# Altium schematic symbol library STB_Schlib.SchLib: 6 symbols
Pins are listed as number, name and electrical type; pins without a type are passive.

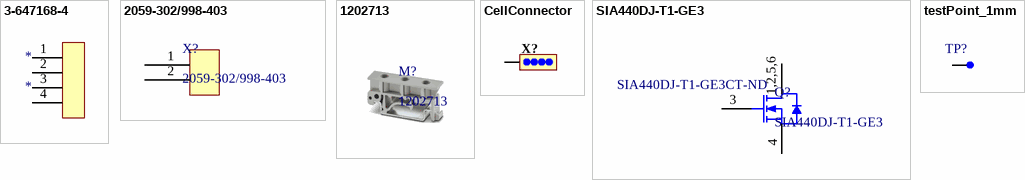
[diagram p0: symbols 3-647168-4 to testPoint_1mm]

## 3-647168-4
designator *
Board Connector, 4 Contact(s), 1 Row(s), Male, Straight, 0.1 inch Pitch, Locking, Black Insulator, Plug; Manufacturer: TE Connectivity; Manufacturer Part Number: 3-647166-4; Manufacturer Series: 647166; Option: General Purpose; Filter Feature: No; Number of Rows Loaded: 1; Number of Contacts: 4; Contact Pattern: RECTANGULAR; Contact Resistance: 10mR; Contact Style: SQ PIN-SKT; Dielectric Withstanding Voltage (AC): 750V; Durability: 25Cycles; Insertion Force-Max: 8.896N; Insulation Resistance: 5GR; Polarization Key: POLARIZED HOUSING; Withdrawl Force-Min: 3.614N; Number Of PCB Rows: 2; PCB Contact Pattern: STAGGERED; Body Breadth: 0.25inch; Body Depth: 0.347inch; Body Length: 0.4inch; Mounting Option 2: FRICTION LOCK; PCB Contact Row Spacing: 2.9972mm; Reference Standard: UL; Reliability: COMMERCIAL; Supplier 1: Digi-Key; Supplier Part Number 1: A110803-ND; RoHS: Yes; Category: Connectors; Stock 1: 3619; Pricing 1: 1=2.42000, 10=2.10700, 100=1.88280, 500=1.56900, 1000=1.34485, 5000=1.19243 (USD); Mount: Board; Contact Finish - Mating: NOT SPECIFIED; Insulation Color: Black; Insulation Material: Nylon; Min Operating Temperature: -55°C; Max Operating Temperature: 105°C; Connector Type: BOARD CONNECTOR; Contact Gender: Male; Mixed Contacts: No; JESD-609 Code: e3; Termination: SMD/SMT; Body/Shell Style: PLUG; Mounting Style: STRAIGHT; Number Of Connectors: 1; Mating Contact Pitch: 0.1inch; Mounting Option 1: LOCKING; Terminal Pitch: 2.54mm; RoHS Compliant: Yes; DIN Conformance: No; IEC Conformance: No; MIL Conformance: No; Reach SVHC Compliant: Yes; ComponentLink1URL: https://datasheet.ciiva.com:443/pdfs/VipMasterIC/IC/TYEL/TYEL-S-A0008869674/TYEL-S-A0008865685-1.pdf?src-supplier=IHS+Markit; ComponentLink1Description: https://datasheet.ciiva.com:443/pdfs/VipMasterIC/IC/TYEL/TYEL-S-A0008869674/TYEL-S-A0008865685-1.pdf?src-supplier=IHS+Markit; ComponentLink2URL: https://datasheet.ciiva.com/16216/eng-ds-82056-mta-0608-16216388.pdf?src-supplier=Future+Electronics; ComponentLink2Description: https://datasheet.ciiva.com/16216/eng-ds-82056-mta-0608-16216388.pdf?src-supplier=Future+Electronics; ComponentLink3URL: https://datasheet.ciiva.com/9525/eng-ds-82056-mta-0608-9525559.pdf?src-supplier=Avnet; ComponentLink3Description: https://datasheet.ciiva.com/9525/eng-ds-82056-mta-0608-9525559.pdf?src-supplier=Avnet
footprint 3-647168-4 (04P MTA100 HDR ASSY SM 30AU LF)
pins: 1, 2, 3, 4

## 2059-302/998-403
designator X?
Barrier Strip Terminal Block, 3A, 0.34mm2, 1 Row(s), 1 Deck(s); Manufacturer: WAGO; Fastening Method: PUSH-IN; Number of Decks: 1; Number of Ways: 2; Voltage Rating: 250V; Wire/Cable Gauge: 22AWG; Safety Approval: UL; Supplier 1: Digi-Key; Manufacturer Part Number: 2059-302/998-403; RoHS: Yes; Category: Connectors; Stock 1: 17368; Pricing 1: 1=1.25000, 10=0.87800, 25=0.81880, 50=0.74320, 100=0.73990, 250=0.62484, 500=0.59194 (USD); Mount: Board; Number of Rows: 1; Current Rating: 3A; Terminal and Terminal Block Type: BARRIER STRIP TERMINAL BLOCK; Wire Cross Section: 0.34mm2; REACH SVHC: Yes; RoHS Compliant: Yes; ComponentLink1URL: https://datasheet.ciiva.com:443/pdfs/VipMasterIC/IC/WAGO/WAGO-S-A0007107760/WAGO-S-A0007107948-1.pdf?src-supplier=IHS+Markit; ComponentLink1Description: https://datasheet.ciiva.com:443/pdfs/VipMasterIC/IC/WAGO/WAGO-S-A0007107760/WAGO-S-A0007107948-1.pdf?src-supplier=IHS+Markit; ComponentLink2URL: https://datasheet.ciiva.com/41441/001208172-da-01-de-smd-leiterplattenklemme-2059-302-998-404-41441808.pdf?src-supplier=Conrad; ComponentLink2Description: https://datasheet.ciiva.com/41441/001208172-da-01-de-smd-leiterplattenklemme-2059-302-998-404-41441808.pdf?src-supplier=Conrad; ComponentLink3URL: https://datasheet.ciiva.com/46435/1860449-46435420.pdf?src-supplier=Element14; ComponentLink3Description: https://datasheet.ciiva.com/46435/1860449-46435420.pdf?src-supplier=Element14; Supplier Part Number 1: 2946-2059-302/998-403CT-ND
footprint 2059-302/998-403 (2 pos)
pins: 1, 2

## 1202713
designator M?
EMI/EMD/EMC Protections; Manufacturer: Phoenix Contact; Supplier 1: Digi-Key; Manufacturer Part Number: 1202713; RoHS: Yes; Category: Connectors; Stock 1: 1956; Pricing 1: 1=1.92000, 10=1.47000, 50=1.35240, 100=1.24950, 250=1.19072, 500=1.11720, 1000=1.05876, 2500=1.03951, 5000=1.02411 (USD); ComponentLink1URL: https://datasheet.ciiva.com:443/pdfs/VipMasterIC/IC/PCON/PCON-S-A0000016077/PCON-S-A0000017096-1.pdf?src-supplier=IHS+Markit; ComponentLink1Description: https://datasheet.ciiva.com:443/pdfs/VipMasterIC/IC/PCON/PCON-S-A0000016077/PCON-S-A0000017096-1.pdf?src-supplier=IHS+Markit; ComponentLink2URL: https://datasheet.ciiva.com/6712/1202713-6712528.pdf?src-supplier=Digi-Key; ComponentLink2Description: https://datasheet.ciiva.com/6712/1202713-6712528.pdf?src-supplier=Digi-Key; ComponentLink3URL: https://datasheet.ciiva.com/15656/1202713-15656099.pdf?src-supplier=Onlinecomponents.com; ComponentLink3Description: https://datasheet.ciiva.com/15656/1202713-15656099.pdf?src-supplier=Onlinecomponents.com; ComponentLink4URL: https://datasheet.ciiva.com/29271/715928-da-01-de-schienenadapter-1202713-10-st-29271415.pdf?src-supplier=Conrad; ComponentLink4Description: https://datasheet.ciiva.com/29271/715928-da-01-de-schienenadapter-1202713-10-st-29271415.pdf?src-supplier=Conrad; ComponentLink5URL: https://datasheet.ciiva.com/14616/70171402-14616683.pdf?src-supplier=Allied+Electronics; ComponentLink5Description: https://datasheet.ciiva.com/14616/70171402-14616683.pdf?src-supplier=Allied+Electronics; Supplier Part Number 1: 277-2289-ND
footprint 1202713 (Rail adapters - USA 10/4,6)

## CellConnector
designator X?  (value not drawn)  (no BOM)
SMD dummy for cell connection
footprint cellConnector (dumm for cell ceonnection)
pins: TP? 1

## SIA440DJ-T1-GE3
designator Q?  Supplier Part Number 1: SIA440DJ-T1-GE3CT-ND
VISHAY   SIA440DJ-T1-GE3   MOSFET Transistor, N Channel, 12 A, 40 V, 0.021 ohm, 10 V; Manufacturer: Vishay Siliconix; Element Configuration: Single; Rds On Max: 26mR; Number of Channels: 1; Drain to Source Voltage (Vdss): 40V; Continuous Drain Current (ID): 12A; Max Power Dissipation: 19W; Gate to Source Voltage (Vgs): 12V; Input Capacitance: 700pF; Rise Time: 32ns; Turn-On Delay Time: 12ns; Fall Time: 5ns; Turn-Off Delay Time: 23ns; Supplier 1: Digi-Key; Manufacturer Part Number: SIA440DJ-T1-GE3; RoHS: Yes; Category: MOSFETs; Stock 1: 7570; Pricing 1: 1=0.46000, 10=0.39000, 25=0.36400, 100=0.27040, 250=0.25688, 500=0.21112, 1000=0.17160 (USD); Mount: Surface Mount; Number of Pins: 6; Min Operating Temperature: -55°C; Max Operating Temperature: 150°C; Packaging: Tape and Reel; Package Quantity: 3000; Drain to Source Resistance: 26mR; Drain to Source Breakdown Voltage: 40V; Length: 2.05mm; Height: 0.75mm; Width: 2.05mm; Radiation Hardening: No; REACH SVHC: Unknown; ComponentLink1URL: https://datasheet.ciiva.com/29746/sia440dj-29746688.pdf?src-supplier=Digi-Key; ComponentLink1Description: https://datasheet.ciiva.com/29746/sia440dj-29746688.pdf?src-supplier=Digi-Key; ComponentLink2URL: https://datasheet.ciiva.com/24094/sia440dj-267638-24094753.pdf?src-supplier=Mouser; ComponentLink2Description: https://datasheet.ciiva.com/24094/sia440dj-267638-24094753.pdf?src-supplier=Mouser
footprint SC70-6L_65P210X80_HS-7L (SC70-6L, Vishay Siliconix, Body 2.07x2.07mm, Pitch 0.65mm, IPC High Density)
pins: 1 DRAIN, 2 DRAIN, 3 GATE, 4 SOURCE, 5 DRAIN, 6 DRAIN, S SOURCE, TP DRAIN
text: 1,2,5,6

## testPoint_1mm
designator TP?  (value not drawn)  (no BOM)
testPoint 1mm
footprint TP-SM-C-100 (Test Point, Surface Mounting, Circular, Pad Diameter 1mm)
pins: 1 TP